# EAGLE library part QMC5883L (library QMC5883L)
3-Axis Magnetic Sensor Source: Datasheet <https://datasheet.lcsc.com/lcsc/2012221837_QST-QMC5883L_C976032.pdf>
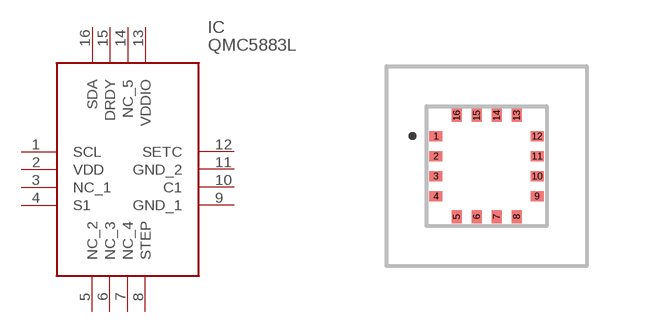
[diagram p0: symbol with the pads of QMC5883L; footprint QMC5883L]

Designator prefix IC

## QMC5883L (Description: 3-Axis Magnetic Sensor; Height: 1.02mm; Manufacturer_Name: QST; Manufacturer_Part_Number: QMC5883L)  [QMC5883L]
1  SCL
2  VDD
3  NC_1
4  S1
5  NC_2
6  NC_3
7  NC_4
8  STEP
9  GND_1
10  C1
11  GND_2
12  SETC
13  VDDIO
14  NC_5
15  DRDY
16  SDA

## Footprint QMC5883L (pad centres in mm)
LGA-16
smd 0.325 x 0.25: 1 -1.263,0.75; 2 -1.263,0.25; 3 -1.263,-0.25; 4 -1.263,-0.75; 9 1.263,-0.75; 10 1.263,-0.25; 11 1.263,0.25; 12 1.263,0.75
smd 0.25 x 0.325: 5 -0.75,-1.263; 6 -0.25,-1.263; 7 0.25,-1.263; 8 0.75,-1.263; 13 0.75,1.263; 14 0.25,1.263; 15 -0.25,1.263; 16 -0.75,1.263